# EAGLE library part TPCP8404 (library Railstars)
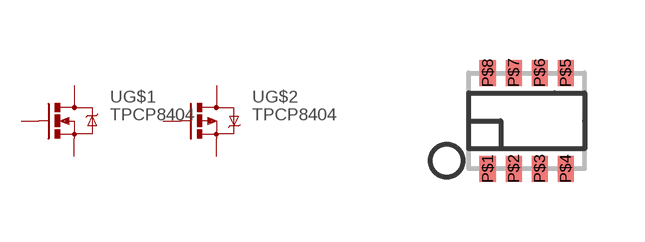
[diagram p33: symbol with the pads of PS-8; footprint PS-8]

Designator prefix -; gates G$1=MOSFET-NCHANNEL G$2=MOSFET-PCHANNEL

## TPCP8404  [PS-8]
P$1  G$1:S  pas
P$2  G$1:G  pas
P$3  G$2:S  pas
P$4  G$2:G  pas
P$5  G$2:D  pas
P$6  G$2:D  pas
P$7  G$1:D  pas
P$8  G$1:D  pas

## Footprint PS-8 (pad centres in mm)
smd 0.4 x 0.65: P$1 -0.975,-1.2; P$2 -0.325,-1.2; P$3 0.325,-1.2; P$4 0.975,-1.2; P$5 0.975,1.2; P$6 0.325,1.2; P$7 -0.325,1.2; P$8 -0.975,1.2